# EAGLE library part PIN_2MM_10POL (library SureDSP)
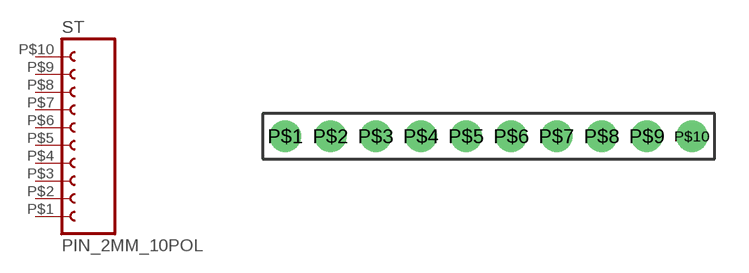
[diagram p1: symbol with the pads of PIN_2MM_10POL; footprint PIN_2MM_10POL]

Designator prefix ST

## PIN_2MM_10POL  [PIN_2MM_10POL]
P$1  1  pas
P$2  3  pas
P$3  5  pas
P$4  7  pas
P$5  9  pas
P$6  11  pas
P$7  13  pas
P$8  15  pas
P$9  17  pas
P$10  19  pas

## Footprint PIN_2MM_10POL (pad centres in mm)
drill 0.85 pad 1.4: P$1 0,0; P$2 2,0; P$3 4,0; P$4 6,0; P$5 8,0; P$6 10,0; P$7 12,0; P$8 14,0; P$9 16,0; P$10 18,0